# Altium footprint library ARM_Libary_EURO.PcbLib: 112 footprints (part 7 of 7)
Each footprint in its own frame and in the unit in brackets; x right, y up, seen from the top. Pads: shape width x height; smd on the part's side, far side on the other; paste and mask are expansions set on the pad; w line width, h text height; cw(c..) or ccw(c..) is an arc to the next point about the centre after c.
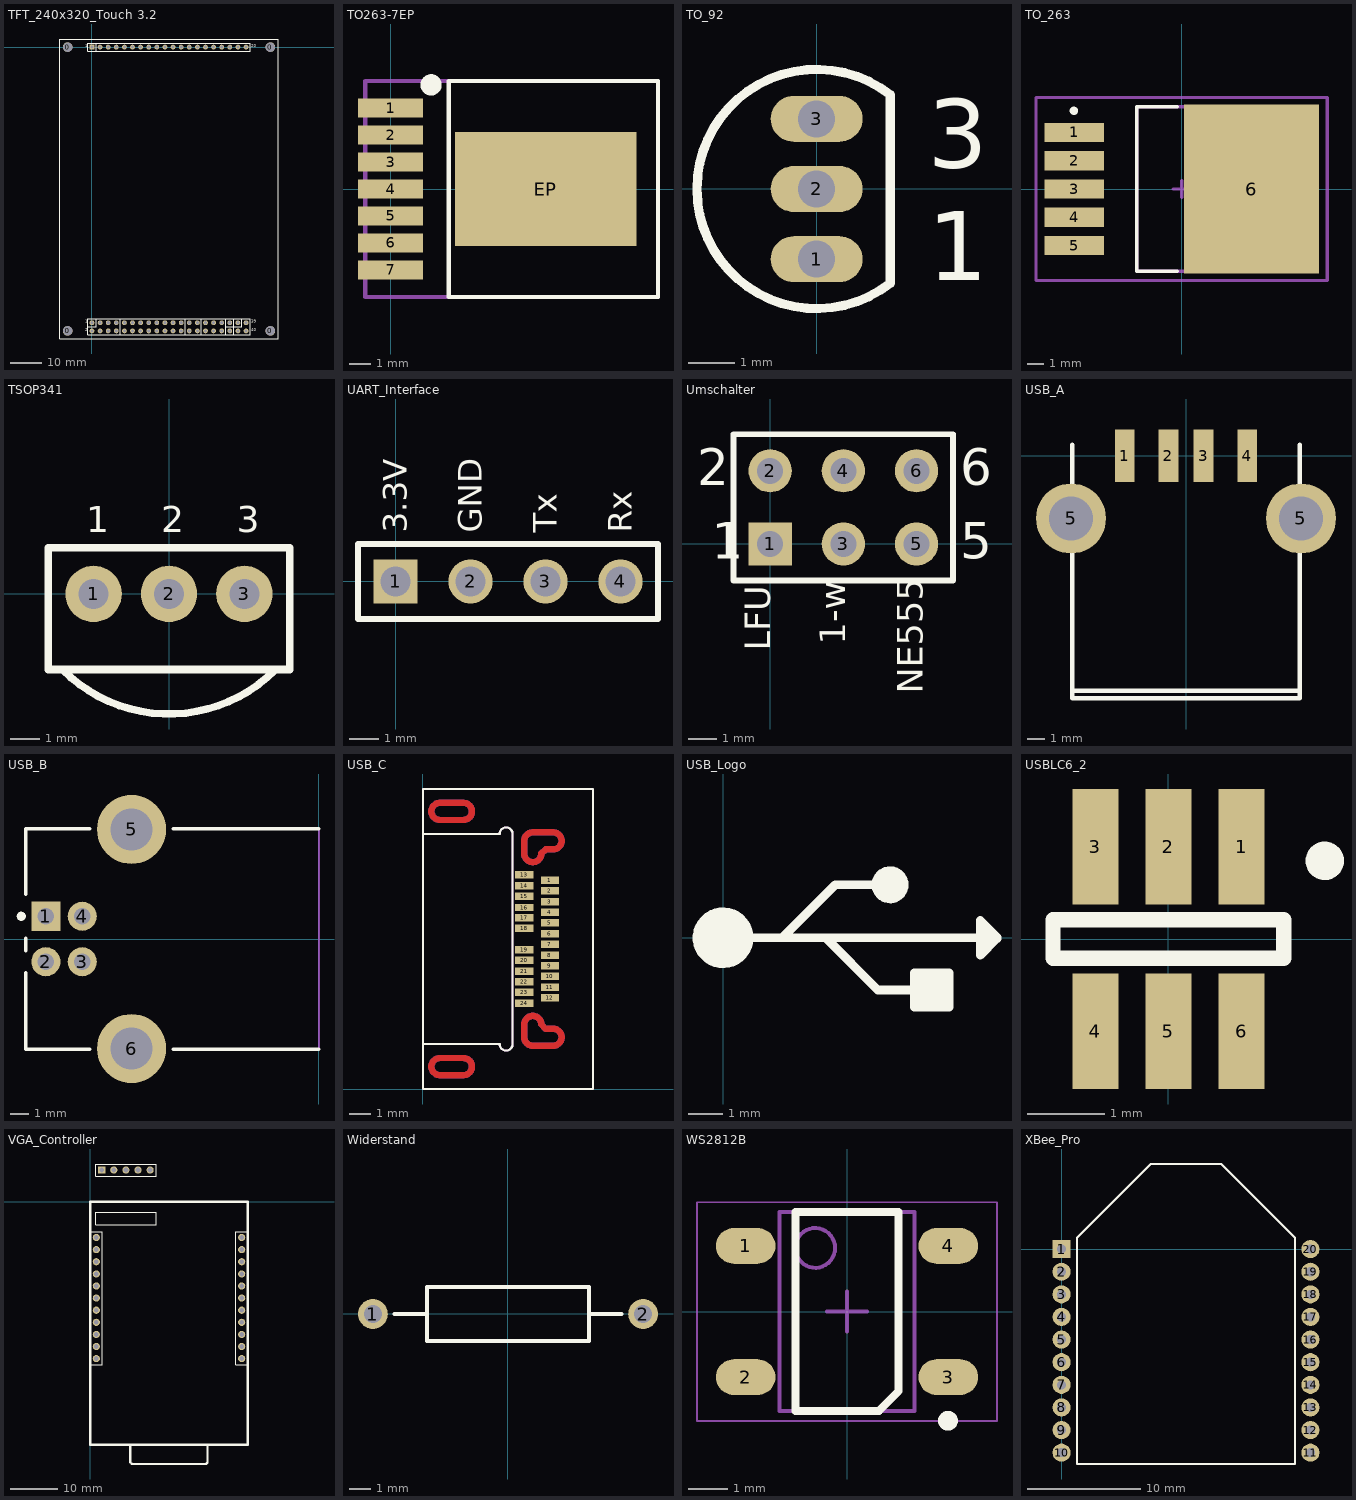
[diagram p6: the footprints below, top view; thin cyan lines are the x and y axes]

## TFT_240x320_Touch 3.2 [mm] "Touchscreen"
pads (64):
  round 3 hole 3: 0(-7.62,-88.9) 0(-7.62,0) 0(55.88,-88.9) 0(55.88,0)
  rect 1.5x1.5 hole 1.016: 1(0,0)
  round 1.5 hole 1.016: 2(2.54,0) 3(5.08,0) 4(7.62,0) 5(10.16,0) 6(12.7,0) 7(15.24,0) 8(17.78,0) 9(20.32,0) 10(22.86,0) 11(25.4,0) 12(27.94,0) 13(30.48,0) 14(33.02,0) 15(35.56,0) 16(38.1,0) 17(40.64,0) 18(43.18,0) 21(0,-86.36) 22(0,-88.9) 23(2.54,-86.36) 24(2.54,-88.9) 25(5.08,-86.36) 26(5.08,-88.9) 27(7.62,-86.36) 28(7.62,-88.9) 29(10.16,-86.36) 30(10.16,-88.9) 31(12.7,-86.36) 32(12.7,-88.9) 33(15.24,-86.36) 34(15.24,-88.9) 35(17.78,-86.36) 36(17.78,-88.9) 37(20.32,-86.36) 38(20.32,-88.9) 39(22.86,-86.36) 40(22.86,-88.9) 41(25.4,-86.36) 42(25.4,-88.9) 43(27.94,-86.36) 44(27.94,-88.9) 45(30.48,-86.36) 46(30.48,-88.9) 47(33.02,-86.36) 48(33.02,-88.9) 49(35.56,-86.36) 50(35.56,-88.9) 51(38.1,-86.36) 52(38.1,-88.9) 53(40.64,-86.36) 54(40.64,-88.9) 55(43.18,-86.36) 56(43.18,-88.9) 57(45.72,-86.36) 58(45.72,-88.9) 59(48.26,-86.36) 60(48.26,-88.9)
  round 1.5 hole 0.9: 19(45.72,0) 20(48.26,0)
Top Overlay:
  lines w0.2: -1.27,-87.63 1.27,-87.63 1.27,-85.09 ; 1.27,-1.27 1.27,1.27 ; 8.89,-90.17 8.89,-85.09 ; 29.21,-90.17 29.21,-85.09 ; 34.29,-90.17 34.29,-85.09 ; 41.91,-90.17 41.91,-85.09 ; 41.91,-87.63 46.99,-87.63 46.99,-85.09 ; 44.45,-90.17 44.45,-85.09 ; -10.16,-91.44 -10.16,2.54 58.42,2.54 58.42,-91.44 -10.16,-91.44 ; -1.27,-90.17 49.53,-90.17 49.53,-85.09 -1.27,-85.09 -1.27,-90.17 ; -1.27,-1.27 -1.27,1.27 49.53,1.27 49.53,-1.27 -1.27,-1.27
  text "1" at -2.159,-0.381 h1.52
  text "20" at 49.911,-0.381 h1.52
  text "1" at -2.159,-86.741 h1.52
  text "2" at -2.159,-89.281 h1.52
  text "39" at 49.911,-86.741 h1.52
  text "40" at 49.911,-89.281 h1.52

## TO263-7EP [mm] "SMD, 7-Leads, Body 10.4x10.1mm (max), Pitch 1.27mm, IPC Medium Density"
height 6.2
pads (14):
  rect 3.06x0.89 smd: 1(0,3.81) 2(0,2.54) 3(0,1.27) 4(0,0) 5(0,-1.27) 6(0,-2.54) 7(0,-3.81)
  rect 8.54x5.35 smd paste-403.566: EP(7.305,0)
  rect 2.71x2.575 on Top Paste: ""(4.395,-1.388) ""(4.395,1.388) ""(7.305,-1.388) ""(7.305,1.388) ""(10.215,-1.388) ""(10.215,1.388)
Top Overlay:
  circle w0.5: c1.905,4.9 r0.25
  lines w0.2: 2.735,-5.08 2.735,5.08 12.585,5.08 12.585,-5.08 2.735,-5.08
Mechanical 13:
  lines w0.2: -1.185,-5.08 -1.185,5.08 12.585,5.08 12.585,-5.08 ; -1.185,-5.08 -1.185,-5.08 ; -1.185,-5.08 12.585,-5.08 ; 12.585,-5.08 12.585,-5.08
3D body: height 4.77, standoff 0, extent -1.185,-5.08 12.585,5.08

## TO_92 [mm] "TO, Flat Index; 3 In-Line, Axial Leads; Body Dia. 5.1mm; Leads 0.48 x 0.48 mm (max)"
height 5.33
pads (3):
  oval 2x1 hole 0.8: 1(0,-1.524) 2(0,0) 3(0,1.524)
Top Overlay:
  lines w0.2: 1.601,-2.049 cw(c0,0) 1.601,2.049 ; 1.6,-1.99 1.6,1.99
  text "1" at 2.421,-1.979 h1.5
  text "3" at 2.421,0.467 h1.5

## TO_263 [mm] "D2-PAK, 6-Pads, Body 8,9x9,9mm (max), IPC Low Density"
height 4.65
pads (6):
  rect 3.6x1.15 smd: 1(-6.45,3.4) 2(-6.45,1.7) 3(-6.45,0) 4(-6.45,-1.7) 5(-6.45,-3.4)
  rect 8.1x10.15 smd paste-5: 6(4.2,0)
Top Overlay:
  circle w0.25: c-6.475,4.699 r0.125
  lines w0.2: -0.25,-4.95 -2.7,-4.95 -2.7,4.95 -0.25,4.95
Top Paste:
  rectangle: 0.254,0.229 2.159,1.499
  rectangle: 2.667,0.229 5.715,1.499
  rectangle: 6.223,0.229 8.128,1.499
  rectangle: 0.254,1.956 2.159,3.226
  rectangle: 2.667,1.956 5.715,3.226
  rectangle: 6.223,1.956 8.128,3.226
  rectangle: 6.223,3.683 8.128,4.953
  rectangle: 2.667,3.683 5.715,4.953
  rectangle: 0.254,3.683 2.159,4.953
  rectangle: 0.254,-1.499 2.159,-0.229
  rectangle: 2.667,-1.499 5.715,-0.229
  rectangle: 6.223,-1.499 8.128,-0.229
  rectangle: 6.223,-3.226 8.128,-1.956
  rectangle: 2.667,-3.226 5.715,-1.956
  rectangle: 0.254,-3.226 2.159,-1.956
  rectangle: 0.254,-4.953 2.159,-3.683
  rectangle: 2.667,-4.953 5.715,-3.683
  rectangle: 6.223,-4.953 8.128,-3.683
Mechanical 13:
  lines w0.2: -2.7,-4.95 6.19,-4.95 6.19,4.95 -2.7,4.95 -2.7,-4.95
  text ".Designator" at -2.032,2.286 h1.5
Mechanical 15:
  lines w0.2: -0.5,0 0.5,0 ; 0,-0.5 0,0.5 ; -8.75,-5.5 8.75,-5.5 8.75,5.5 -8.75,5.5 -8.75,-5.5
3D body: height 4.57, standoff -0.01, extent -7.308,-5.08 7.333,5.08

## TSOP341 [mm]
height 30.5
pads (3):
  round 1.9 hole 1.016: 1(-2.54,0) 2(0,0) 3(2.54,0)
Top Overlay:
  lines w0.254: -3.581,-2.563 ccw(c0,1.006) 3.575,-2.569 ; -4.064,-2.55 -4.064,1.55 4.064,1.55 4.064,-2.55 -4.064,-2.55
  text "1" at -2.794,1.778 h1.52
  text "2" at -0.254,1.778 h1.52
  text "3" at 2.286,1.778 h1.52

## UART_Interface [mm]
pads (4):
  rect 1.5x1.5 hole 1.016: 1(0,0)
  round 1.5 hole 1.016: 2(2.54,0) 3(5.08,0) 4(7.62,0)
Top Overlay:
  lines w0.2: -1.27,-1.27 0.635,-1.27 8.89,-1.27 8.89,1.27 -1.27,1.27 -1.27,-1.27
  text "Tx" at 5.461,1.651 h0.8
  text "Rx" at 8.001,1.651 h0.8
  text "GND" at 2.921,1.651 h0.8
  text "3.3V" at 0.381,1.651 h0.8

## Umschalter [mm] "Connector; Header; 3x2 Position"
height 2.54
pads (6):
  rect 1.5x1.5 hole 0.9: 1(0,0)
  round 1.5 hole 0.9: 2(0,2.54) 3(2.54,0) 4(2.54,2.54) 5(5.08,0) 6(5.08,2.54)
Top Overlay:
  lines w0.2: 1.482,-1.27 6.35,-1.27 ; 6.35,-1.27 -1.27,-1.27 -1.27,3.81 6.35,3.81 6.35,-1.27
  text "NE555" at 5.6,-5.2 h1.52
  text "1-w" at 2.9,-3.5 h1.52
  text "LFU" at 0.3,-3.7 h1.52
  text "1" at -2.032,-0.508 h1.27
  text "2" at -2.54,2.032 h1.27
  text "5" at 6.604,-0.508 h1.27
  text "6" at 6.604,2.032 h1.27

## USB_A [mm] "USB Buchse A"
pads (6):
  rect 1.12x3 smd: 1(-3.5,0) 2(-1,0) 3(1,0) 4(3.5,0)
  round 4 hole 2.5: 5(-6.57,-3.58) 5(6.57,-3.58)
Top Overlay:
  lines w0.254: -6.5,-13.43 6.5,-13.43 ; -6.5,0.635 -6.5,-13.86 6.5,-13.86 6.5,0.635

## USB_B [mm] "USB-B_Buchse"
pads (6):
  rect 1.6x1.6 hole 0.92: 1(-15.01,1.25)
  round 1.6 hole 0.92: 2(-15.01,-1.25) 3(-13.01,-1.25) 4(-13.01,1.25)
  round 3.8 hole 2.3: 5(-10.3,6.02) 6(-10.3,-6.02)
Top Overlay:
  circle w0.25: c-16.36,1.25 r0.125
  lines w0.2: -16.12,-1.85 -16.12,-6.05 -12.6,-6.05 ; -16.12,-0.65 -16.12,0.05 ; -16.12,2.45 -16.12,6.05 -12.6,6.05 ; -8,-6.05 -0.02,-6.05 ; -8,6.05 -0.02,6.05
Mechanical 1:
  lines w0.1: 0,-6.05 0,6.05
  text "PCB Edge" at -0.325,-5.651 h0.25

## USB_C [mm] "SON, 24-Leads, Body 9,93x8,22mm, Pitch 0,50mm, IPC Medium Density"
height 3.6
pads (24):
  rect 0.85x0.35 smd mask+0: 1(5.95,9.775) 2(5.95,9.275) 3(5.95,8.775) 4(5.95,8.275) 5(5.95,7.775) 6(5.95,7.275) 7(5.95,6.775) 8(5.95,6.275) 9(5.95,5.775) 10(5.95,5.275) 11(5.95,4.775) 12(5.95,4.275) 13(4.75,10.025) 14(4.75,9.525) 15(4.75,9.025) 16(4.75,8.5) 17(4.75,8.025) 18(4.75,7.525) 19(4.75,6.525) 20(4.75,6.025) 21(4.75,5.525) 22(4.75,5.025) 23(4.75,4.525) 24(4.75,4.025)
Top Layer:
  lines w0.3: 5.55,11.025 cw(c5.15,11.025) 4.75,11.02 4.75,11.62 cw(c5.15,11.62) 5.15,12.02 6.1,12.02 cw(c6.1,11.62) 6.1,11.22 5.75,11.22 5.55,11.034 ; 5.712,2.851 5.55,3.025 ccw(c5.15,3.025) 4.75,3.025 4.75,2.425 ccw(c5.15,2.425) 5.15,2.025 6.1,2.025 ccw(c6.1,2.425) 6.1,2.825 5.75,2.825 ; 0.8,0.65 cw(c0.8,1.05) 0.8,1.45 1.9,1.45 cw(c1.9,1.05) 1.9,0.65 0.8,0.65 ; 0.8,12.6 cw(c0.8,13) 0.8,13.4 1.9,13.4 cw(c1.9,13) 1.9,12.6 0.8,12.6
Bottom Layer:
  lines w0.3: 5.55,11.025 cw(c5.15,11.025) 4.75,11.02 4.75,11.62 cw(c5.15,11.62) 5.15,12.02 6.1,12.02 cw(c6.1,11.62) 6.1,11.22 5.75,11.22 5.55,11.034 ; 5.712,2.851 5.55,3.025 ccw(c5.15,3.025) 4.75,3.025 4.75,2.425 ccw(c5.15,2.425) 5.15,2.025 6.1,2.025 ccw(c6.1,2.425) 6.1,2.825 5.75,2.825 ; 0.8,0.65 cw(c0.8,1.05) 0.8,1.45 1.9,1.45 cw(c1.9,1.05) 1.9,0.65 0.8,0.65 ; 0.8,12.6 cw(c0.8,13) 0.8,13.4 1.9,13.4 cw(c1.9,13) 1.9,12.6 0.8,12.6
Top Overlay:
  lines w0.1: 0,0 7.975,0 7.975,14.05 0,14.05 0,0 ; 0,2.1 3.6,2.1 ccw(c3.9,2.1) 4.2,2.1 4.2,11.95 ccw(c3.9,11.95) 3.6,11.95 0,11.95 0,2.1
Mechanical 1:
  lines w0.1: 0,2.1 0,11.95 3.6,11.95 cw(c3.9,11.95) 4.2,11.95 4.2,2.1 cw(c3.9,2.1) 3.6,2.1 0,2.1

## USB_Logo [mm] "USB-Logo (PCB)"
Top Overlay:
  circle w0.254: c0,0 r0.762
  circle w0.254: c0,0 r0.524
  circle w0.254: c0,0 r0.284
  circle w0.254: c0,0 r0.127
  circle w0.254: c4.877,1.549 r0.413
  circle w0.254: c4.953,1.524 r0.254
  circle w0.254: c4.953,1.524 r0.127
  circle w0.254: c6.096,-1.524 r0.508
  circle w0.254: c6.096,-1.524 r0.3
  circle w0.254: c6.096,-1.524 r0.127
  lines w0.254: 0.524,0 7.747,0 ; 1.727,0 3.277,1.549 4.445,1.549 ; 2.997,0 4.521,-1.524 5.588,-1.524 ; 7.706,-0.299 7.706,0.314 ; 5.588,-1.524 5.588,-1.016 6.604,-1.016 6.604,-2.032 5.588,-2.032 5.588,-1.524 ; 7.512,-0.508 7.512,0.508 8.001,0.019 8.001,-0.019 7.512,-0.508

## USBLC6_2 [mm] "USB - ESD Schutz"
pads (6):
  rect 0.6x1.5 smd: 1(0.95,1.2) 2(0,1.2) 3(-0.95,1.2) 4(-0.95,-1.2) 5(0,-1.2) 6(0.95,-1.2)
Top Overlay:
  circle w0.25: c2.032,1.016 r0.125
  lines w0.2: -1.5,-0.25 -1.5,0.25 1.5,0.25 1.5,-0.25 -1.5,-0.25

## VGA_Controller [mm]
pads (27):
  rect 1.5x1.5 hole 1.016: 1(2.4,6.66)
  round 1.5 hole 1.016: 2(4.94,6.66) 3(7.48,6.66) 4(10.02,6.66) 5(12.56,6.66) 6(1.27,-7.5) 7(1.27,-10.04) 8(1.27,-12.58) 9(1.27,-15.12) 10(1.27,-17.66) 11(1.27,-20.2) 12(1.27,-22.74) 13(1.27,-25.28) 14(1.27,-27.82) 15(1.27,-30.36) 16(1.27,-32.9) 17(31.77,-32.9) 18(31.77,-30.36) 19(31.77,-27.82) 20(31.77,-25.28) 21(31.77,-22.74) 22(31.77,-20.2) 23(31.77,-17.66) 24(31.77,-15.12) 25(31.77,-12.58) 26(31.77,-10.04) 27(31.77,-7.5)
Top Overlay:
  lines w0.2: 0,-34.17 2.54,-34.17 2.54,-6.23 0,-6.23 0,-34.17 ; 1.13,-4.77 13.83,-4.77 13.83,-2.23 1.13,-2.23 1.13,-4.77 ; 1.13,5.39 13.83,5.39 13.83,7.93 1.13,7.93 1.13,5.39 ; 30.5,-34.17 30.5,-6.23 33.04,-6.23 33.04,-34.17 30.5,-34.17
  lines w0.508: 8.4,-51 8.4,-54.628 8.772,-55 24.248,-55 24.6,-54.648 24.6,-51 ; 0,-51 0,0 33,0 33,-51 0,-51

## Widerstand [mm] "Semiconductor Resistor; 2 Leads"
height 2.54
pads (2):
  round 1.4 hole 0.85: 1(-6.35,0) 2(6.35,0)
Top Overlay:
  lines w0.2: -5.334,0 -3.81,0 ; 3.81,0 5.334,0 ; -3.81,-1.27 3.81,-1.27 3.81,1.27 -3.81,1.27 -3.81,-1.27

## WS2812B [mm] "SOP, 4-Leads, Body 5,00x3,40mm, Pitch 3,30mm, IPC Medium Density"
height 2
pads (4):
  oval 1.5x0.9 smd: 1(-2.55,1.65) 2(-2.55,-1.65) 3(2.55,-1.65) 4(2.55,1.65)
Top Overlay:
  circle w0.25: c2.54,-2.75 r0.125
  lines w0.2: -1.3,-2.5 -1.3,2.5 1.3,2.5 1.3,-2.002 0.802,-2.5 -1.3,-2.5
Mechanical 13:
  circle w0.1: c-0.8,1.6 r0.5
  lines w0.1: -1.7,-2.5 1.7,-2.5 1.7,2.5 -1.7,2.5 -1.7,-2.5
Mechanical 15:
  lines w0.05: -3.775,-2.75 3.775,-2.75 3.775,2.75 -3.775,2.75 -3.775,-2.75
  lines w0.1: -0.5,0 0.5,0 ; 0,-0.5 0,0.5
3D body: height 2, standoff 0.15, extent -1.7,-2.5 1.7,2.5

## XBee_Pro [mm]
pads (20):
  rect 1.6x1.6 hole 0.8: 1(0,0)
  round 1.6 hole 0.8: 2(0,-2) 3(0,-4) 4(0,-6) 5(0,-8) 6(0,-10) 7(0,-12) 8(0,-14) 9(0,-16) 10(0,-18) 11(22,-18) 12(22,-16) 13(22,-14) 14(22,-12) 15(22,-10) 16(22,-8) 17(22,-6) 18(22,-4) 19(22,-2) 20(22,0)
Top Overlay:
  lines w0.2: 1.365,-19 20.635,-19 20.635,1 14.11,7.525 14,7.525 11,7.525 8,7.525 7.89,7.525 1.365,1 1.365,-19